# EAGLE library part 2X6-* (library jt-con-tyco)
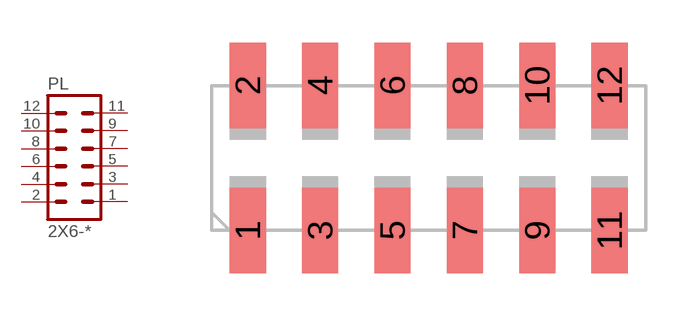
[diagram p7: symbol with the pads of AMP-1241050-6; footprint AMP-1241050-6]

Designator prefix PL

## 2X6-1241050  [AMP-1241050-6]
1  1  pas
2  2  pas
3  3  pas
4  4  pas
5  5  pas
6  6  pas
7  7  pas
8  8  pas
9  9  pas
10  10  pas
11  11  pas
12  12  pas

## Footprint AMP-1241050-6 (pad centres in mm)
smd 1.27 x 3: 1 -6.35,-2.54; 2 -6.35,2.54; 3 -3.81,-2.54; 4 -3.81,2.54; 5 -1.27,-2.54; 6 -1.27,2.54; 7 1.27,-2.54; 8 1.27,2.54; 9 3.81,-2.54; 10 3.81,2.54; 11 6.35,-2.54; 12 6.35,2.54